# EAGLE library part SMD-MOSFET-DUAL-N-CH-30V-2.9A(1206-8) (library Seeed-OPL-Transistor)
305040005
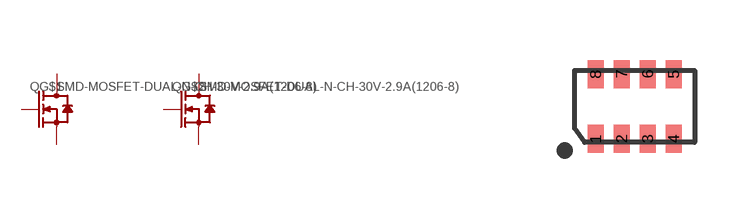
[diagram p0: symbol with the pads of 1206-8; footprint 1206-8]

Designator prefix Q; gates G$1=MOSFET-N G$2=MOSFET-N

## SMD-MOSFET-DUAL-N-CH-30V-2.9A(1206-8) (MPN: SI5902DC-T1-E3)  [1206-8]
1  G$1:S  pas
2  G$1:G  pas
3  G$2:S  pas
4  G$2:G  pas
5  G$1:D  pas
6  G$1:D  pas
7  G$2:D  pas
8  G$2:D  pas

## Footprint 1206-8 (pad centres in mm)
smd 0.4 x 0.7: 1 -0.975,-0.81; 2 -0.325,-0.81; 3 0.325,-0.81; 4 0.975,-0.81; 5 0.975,0.81; 6 0.325,0.81; 7 -0.325,0.81; 8 -0.975,0.81